# Altium schematic symbol library DigitalInclinometer.SchLib: 1 symbol
Pins are listed as number, name and electrical type; pins without a type are passive.

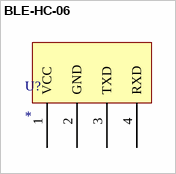
[diagram p0: symbol BLE-HC-06]

## BLE-HC-06
designator U?
pins: 1 VCC, 2 GND, 3 TXD, 4 RXD